# Altium schematic symbol library DTC143ZET1G.SchLib: 1 symbol
Pins are listed as number, name and electrical type; pins without a type are passive.

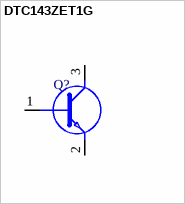
[diagram p0: symbol DTC143ZET1G]

## DTC143ZET1G
designator Q?
ON Semiconductor, DTC143ZET1G NPN Digital Transistor, 100 mA 50 V 4.7 k, Ratio Of 0.1, 3-Pin SC-75; Manufacturer_Name: onsemi; Geometry.Height: 0.9mm; Manufacturer_Part_Number: DTC143ZET1G; Mouser Part Number: 863-DTC143ZET1G; Mouser Price/Stock: https://www.mouser.co.uk/ProductDetail/onsemi/DTC143ZET1G?qs=2OtswVQKCOGWcFMBzaldrg%3D%3D; Arrow Part Number: DTC143ZET1G; Arrow Price/Stock: https://www.arrow.com/en/products/dtc143zet1g/on-semiconductor?region=europe; Mouser Testing Part Number: *; Mouser Testing Price/Stock: *; Datasheet Link: http://www.onsemi.com/pub/Collateral/DTC143Z-D.PDF
footprint SOT50P160X90-3N
pins: 1 B, 2 E, 3 C